# Altium footprint library A.Shelestov_Batteries.PcbLib: 5 footprints
Each footprint in its own frame and in the unit in brackets; x right, y up, seen from the top. Pads: shape width x height; smd on the part's side, far side on the other; paste and mask are expansions set on the pad; w line width, h text height; cw(c..) or ccw(c..) is an arc to the next point about the centre after c.
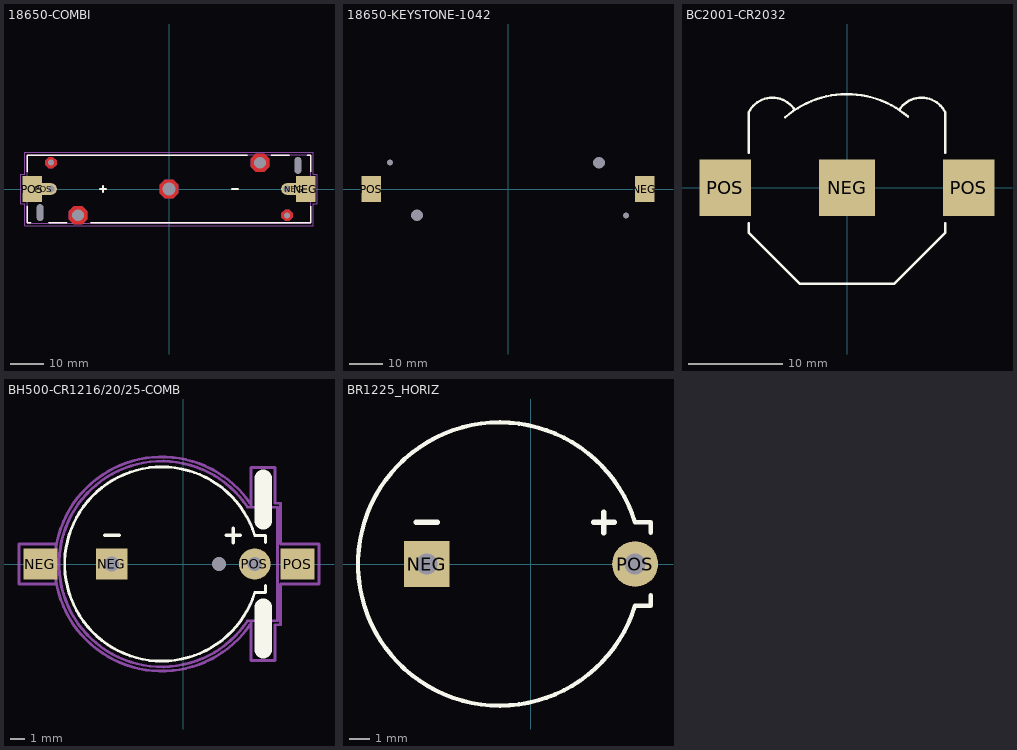
[diagram p0: the footprints below, top view; thin cyan lines are the x and y axes]

## 18650-COMBI [mm]
pads (13):
  round 1.524 hole 2 slot 5 at 90 deg unplated: MECH(-39.1,-7.15) MECH(39.1,7.15)
  round 1.524 hole 1.8 unplated mask+0.5: MECH(-35.85,8) MECH(35.85,-8)
  round 1.524 hole 3.5 unplated mask+1.4: MECH(-27.6,-8) MECH(27.6,8)
  round 1.524 hole 4 unplated mask+1.6: MECH(0,0)
  round 3.5 hole 2: NEG(35.75,0) POS(-35.75,0)
  rrect100% 8x3.5 smd: NEG(38,0) POS(-38,0)
  rect 6x8 smd: NEG(41.5,0) POS(-41.5,0)
Top Layer:
  pour cut-out: -30.35,-6.749 -28.851,-5.251 -26.349,-5.25 -24.85,-6.75 -24.85,-9.25 -26.35,-10.75 -28.85,-10.75 -30.35,-9.249
  pour cut-out: 24.85,9.251 26.349,10.749 28.851,10.75 30.35,9.25 30.35,6.75 28.85,5.25 26.35,5.25 24.85,6.751
  pour cut-out: -2.75,1.251 -1.251,2.749 1.251,2.75 2.75,1.25 2.75,-1.25 1.25,-2.75 -1.25,-2.75 -2.75,-1.249
  pour cut-out: 34.1,-7.4 35.2,-6.3 36.5,-6.3 37.6,-7.401 37.6,-8.6 36.5,-9.7 35.2,-9.7 34.1,-8.599
  pour cut-out: -37.6,8.6 -36.5,9.7 -35.2,9.7 -34.1,8.599 -34.1,7.4 -35.2,6.3 -36.5,6.3 -37.6,7.401
Bottom Layer:
  pour cut-out: 24.85,9.251 26.349,10.749 28.851,10.75 30.35,9.25 30.35,6.75 28.85,5.25 26.35,5.25 24.85,6.751
  pour cut-out: -30.35,-6.749 -28.851,-5.251 -26.349,-5.25 -24.85,-6.75 -24.85,-9.25 -26.35,-10.75 -28.85,-10.75 -30.35,-9.249
  pour cut-out: -2.75,1.251 -1.251,2.749 1.251,2.75 2.75,1.25 2.75,-1.25 1.25,-2.75 -1.25,-2.75 -2.75,-1.249
  pour cut-out: 34.1,-7.4 35.2,-6.3 36.5,-6.3 37.6,-7.401 37.6,-8.6 36.5,-9.7 35.2,-9.7 34.1,-8.599
  pour cut-out: -37.6,8.6 -36.5,9.7 -35.2,9.7 -34.1,8.599 -34.1,7.4 -35.2,6.3 -36.5,6.3 -37.6,7.401
Top Overlay:
  lines w0.5: -43,-5.25 -43,-10.25 -42,-10.25 ; -43,5.25 -43,10.25 23.75,10.25 ; -36.5,-10.25 -31,-10.25 ; -23.75,-10.25 43,-10.25 43,-5.25 ; -21,0 -19,0 ; -20,-1 -20,1 ; 19,0 21,0 ; 31,10.25 36.5,10.25 ; 42,10.25 43,10.25 43,5.25
Bottom Overlay:
  circle w0.3: c0,0 r3
  lines w0.254: -40.6,-8.65 ccw(c-39.1,-8.65) -37.6,-8.65 -37.6,-5.65 ccw(c-39.1,-5.65) -40.6,-5.65 -40.6,-8.65 ; 37.6,5.65 ccw(c39.1,5.65) 40.6,5.65 40.6,8.65 ccw(c39.1,8.65) 37.6,8.65 37.6,5.65
  lines w0.5: -37,5 -35,5 ; -36,4 -36,6 ; 35,-5 37,-5
Mechanical 13:
  lines w0.254: -42.979,-10.325 -42.979,0 -42.979,10.325 0,10.325 42.979,10.325 42.979,0 42.979,-10.325 0,-10.325 -42.979,-10.325
  text ".Designator" at -7.4,-8 h6
Mechanical 15:
  lines w0.254: 0,0 0,1.2 ; -45,-4.5 -43.8,-4.5 -43.8,-11.1 0,-11.1 43.8,-11.1 43.8,-4.5 45,-4.5 45,0 45,4.5 43.8,4.5 43.8,11.1 0,11.1 -43.8,11.1 -43.8,4.5 -45,4.5 -45,0 -45,-4.5
3D body "User Library-KEYELCO_1042.step": height 14.96, standoff -3.33, extent -42.979,-10.325 43.025,10.325

## 18650-KEYSTONE-1042 [mm]
pads (6):
  round 1.524 hole 1.8: MECH(-35.85,8) MECH(35.85,-8)
  round 1.524 hole 3.5: MECH(-27.6,-8) MECH(27.6,8)
  rect 6x8 smd: NEG(41.5,0) POS(-41.5,0)
3D body "User Library-KEYELCO_1042.step": height 14.96, standoff -3.33, extent -42.977,-10.325 43.027,10.325

## BC2001-CR2032 [mm]
pads (3):
  rect 6x6 smd: NEG(0,0)
  rect 5.5x6 smd: POS(-13,0) POS(13,0)
Top Overlay:
  lines w0.254: -10.5,-3.75 -10.5,-4.75 -5,-10.25 5,-10.25 10.5,-4.75 10.5,-3.75 ; -10.5,3.75 -10.5,8 ; -10.485,8.05 cw(c-7.955,6.785) -5.57,8.305 ; -6.585,7.526 cw(c0,0) 6.508,7.593 ; 5.569,8.32 cw(c7.945,6.785) 10.475,8.05 ; 10.5,3.75 10.5,8
3D body "CR2032-Keystone-3002.step": height 3.96, standoff 0, extent -15.367,-10.274 15.367,9.779

## BH500-CR1216/20/25-COMB [mm]
pads (5):
  round 0.5 hole 1 unplated: H(2.5,0)
  rect 2.4x2.2 smd: NEG(-10,0) POS(8,0)
  rect 2.2x2.2 hole 1.016: NEG(-5,0)
  round 2.2 hole 1: POS(5,0)
Top Overlay:
  lines w0.203: 5,-2 5.75,-2 5.75,-1.5 ; 5,2 5.75,2 5.75,1.5 ; 5.004,-1.988 cw(c-1.5,0) 5.004,1.988
  lines w0.254: -5.5,2 -4.5,2 ; 3,2 4,2 ; 3.5,1.5 3.5,2.5
  lines w1.2: 5.6,-6 5.6,-3 ; 5.6,3 5.6,6
Mechanical 4:
  circle w0.051: c-4.34,0 r0.39
  circle w0.051: c-4.34,0 r0.39
Mechanical 13:
  lines w0.2: 4.504,-3.974 cw(c-1.5,0) 4.504,3.974 6.6,3.974 6.6,-3.974 4.504,-3.974
  text ".Designator" at -5.8,-3.375 h3
Mechanical 15:
  lines w0.2: -8.875,-1.4 -11.5,-1.4 -11.5,0 -11.5,1.4 -8.875,1.4 ; 4.75,-4.15 4.75,-6.75 6.425,-6.75 6.425,-4.25 6.8,-4.25 6.8,-1.4 9.5,-1.4 9.5,0 9.5,1.4 6.8,1.4 6.8,4.25 6.425,4.25 6.425,6.75 4.75,6.75 4.75,4.15 ; 4.754,-4.14 cw(c-1.5,0) 4.754,4.14
3D body "CR1220 BH500.step": height 4.33, standoff -0.42, extent -10.4,-7.349 8.4,7.4

## BR1225_HORIZ [mm]
pads (2):
  rect 2.2x2.2 hole 1.016: NEG(-5,0)
  round 2.2 hole 1: POS(5,0)
Top Overlay:
  lines w0.203: 5,-2 5.75,-2 5.75,-1.5 ; 5,2 5.75,2 5.75,1.5 ; 5.004,-1.988 cw(c-1.5,0) 5.004,1.988
  lines w0.254: -5.5,2 -4.5,2 ; 3,2 4,2 ; 3.5,1.5 3.5,2.5
Mechanical 4:
  circle w0.051: c-4.34,0 r0.39
  circle w0.051: c-4.34,0 r0.39
3D body "BR-1225A.step": height 5.15, standoff -3.05, extent -7.95,-6.3 5.05,6.3